# Altium footprint library QFP50P2200X2200X160-144N.PcbLib: 1 footprints
Each footprint in its own frame and in the unit in brackets; x right, y up, seen from the top. Pads: shape width x height; smd on the part's side, far side on the other; paste and mask are expansions set on the pad; w line width, h text height; cw(c..) or ccw(c..) is an arc to the next point about the centre after c.
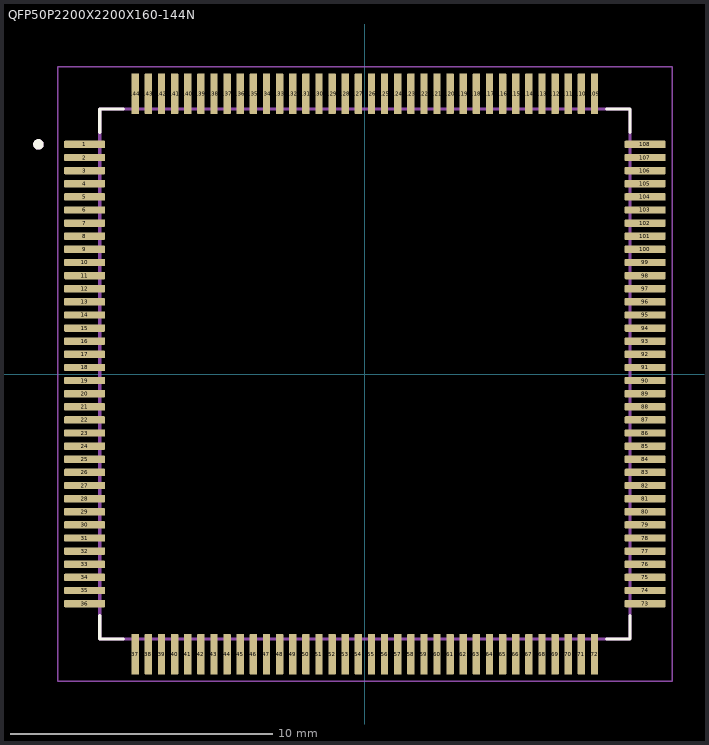
[diagram p0: the footprint, top view; thin cyan lines are the x and y axes]

## QFP50P2200X2200X160-144N [mm] "STM32H743ZiT6"
pads (144):
  rrect25% 1.56x0.28 smd: 1(-10.68,8.75) 2(-10.68,8.25) 3(-10.68,7.75) 4(-10.68,7.25) 5(-10.68,6.75) 6(-10.68,6.25) 7(-10.68,5.75) 8(-10.68,5.25) 9(-10.68,4.75) 10(-10.68,4.25) 11(-10.68,3.75) 12(-10.68,3.25) 13(-10.68,2.75) 14(-10.68,2.25) 15(-10.68,1.75) 16(-10.68,1.25) 17(-10.68,0.75) 18(-10.68,0.25) 19(-10.68,-0.25) 20(-10.68,-0.75) 21(-10.68,-1.25) 22(-10.68,-1.75) 23(-10.68,-2.25) 24(-10.68,-2.75) 25(-10.68,-3.25) 26(-10.68,-3.75) 27(-10.68,-4.25) 28(-10.68,-4.75) 29(-10.68,-5.25) 30(-10.68,-5.75) 31(-10.68,-6.25) 32(-10.68,-6.75) 33(-10.68,-7.25) 34(-10.68,-7.75) 35(-10.68,-8.25) 36(-10.68,-8.75) 73(10.68,-8.75) 74(10.68,-8.25) 75(10.68,-7.75) 76(10.68,-7.25) 77(10.68,-6.75) 78(10.68,-6.25) 79(10.68,-5.75) 80(10.68,-5.25) 81(10.68,-4.75) 82(10.68,-4.25) 83(10.68,-3.75) 84(10.68,-3.25) 85(10.68,-2.75) 86(10.68,-2.25) 87(10.68,-1.75) 88(10.68,-1.25) 89(10.68,-0.75) 90(10.68,-0.25) 91(10.68,0.25) 92(10.68,0.75) 93(10.68,1.25) 94(10.68,1.75) 95(10.68,2.25) 96(10.68,2.75) 97(10.68,3.25) 98(10.68,3.75) 99(10.68,4.25) 100(10.68,4.75) 101(10.68,5.25) 102(10.68,5.75) 103(10.68,6.25) 104(10.68,6.75) 105(10.68,7.25) 106(10.68,7.75) 107(10.68,8.25) 108(10.68,8.75)
  rrect25% 0.28x1.56 smd: 37(-8.75,-10.68) 38(-8.25,-10.68) 39(-7.75,-10.68) 40(-7.25,-10.68) 41(-6.75,-10.68) 42(-6.25,-10.68) 43(-5.75,-10.68) 44(-5.25,-10.68) 45(-4.75,-10.68) 46(-4.25,-10.68) 47(-3.75,-10.68) 48(-3.25,-10.68) 49(-2.75,-10.68) 50(-2.25,-10.68) 51(-1.75,-10.68) 52(-1.25,-10.68) 53(-0.75,-10.68) 54(-0.25,-10.68) 55(0.25,-10.68) 56(0.75,-10.68) 57(1.25,-10.68) 58(1.75,-10.68) 59(2.25,-10.68) 60(2.75,-10.68) 61(3.25,-10.68) 62(3.75,-10.68) 63(4.25,-10.68) 64(4.75,-10.68) 65(5.25,-10.68) 66(5.75,-10.68) 67(6.25,-10.68) 68(6.75,-10.68) 69(7.25,-10.68) 70(7.75,-10.68) 71(8.25,-10.68) 72(8.75,-10.68) 109(8.75,10.68) 110(8.25,10.68) 111(7.75,10.68) 112(7.25,10.68) 113(6.75,10.68) 114(6.25,10.68) 115(5.75,10.68) 116(5.25,10.68) 117(4.75,10.68) 118(4.25,10.68) 119(3.75,10.68) 120(3.25,10.68) 121(2.75,10.68) 122(2.25,10.68) 123(1.75,10.68) 124(1.25,10.68) 125(0.75,10.68) 126(0.25,10.68) 127(-0.25,10.68) 128(-0.75,10.68) 129(-1.25,10.68) 130(-1.75,10.68) 131(-2.25,10.68) 132(-2.75,10.68) 133(-3.25,10.68) 134(-3.75,10.68) 135(-4.25,10.68) 136(-4.75,10.68) 137(-5.25,10.68) 138(-5.75,10.68) 139(-6.25,10.68) 140(-6.75,10.68) 141(-7.25,10.68) 142(-7.75,10.68) 143(-8.25,10.68) 144(-8.75,10.68)
Top Overlay:
  circle w0.2: c-12.44,8.75 r0.1
  lines w0.127: -10.1,-9.21 -10.1,-10.1 -9.21,-10.1 ; -10.1,9.21 -10.1,10.1 -9.21,10.1 ; 9.21,-10.1 10.1,-10.1 10.1,-9.21 ; 9.21,10.1 10.1,10.1 10.1,9.21
Mechanical 13:
  circle w0.2: c-12.44,8.75 r0.1
  lines w0.127: -10.1,-10.1 -10.1,10.1 10.1,10.1 10.1,-10.1 -10.1,-10.1
Mechanical 15:
  lines w0.05: -11.71,-11.71 -11.71,11.71 11.71,11.71 11.71,-11.71 -11.71,-11.71
3D body "STM32H743ZIT6--3DModel-STEP-56544.STEP": height 1.73, standoff 0.13, extent -11,-11 11,11